# Altium footprint library SW_S101031MS02Q.PcbLib: 1 footprints
Each footprint in its own frame and in the unit in brackets; x right, y up, seen from the top. Pads: shape width x height; smd on the part's side, far side on the other; paste and mask are expansions set on the pad; w line width, h text height; cw(c..) or ccw(c..) is an arc to the next point about the centre after c.
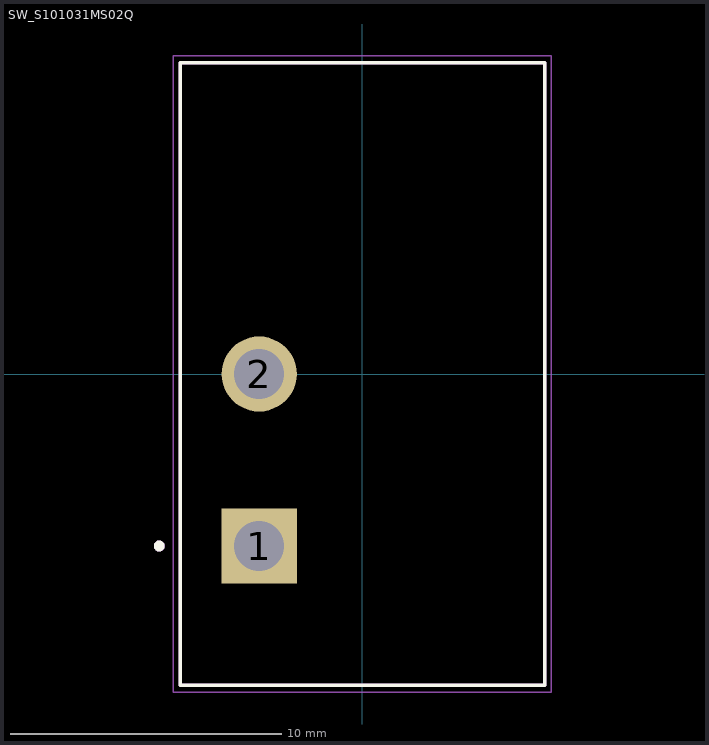
[diagram p0: the footprint, top view; thin cyan lines are the x and y axes]

## SW_S101031MS02Q [mm]
height 18.41
pads (2):
  rect 2.775x2.775 / inner round 2.775 / far side rect 2.775x2.775 hole 1.85: 1(-3.81,-6.35)
  round 2.775 hole 1.85: 2(-3.81,0)
Top Overlay:
  circle w0.2: c-7.5,-6.35 r0.1
  lines w0.127: -6.73,-11.495 6.73,-11.495 6.73,11.495 -6.73,11.495 -6.73,-11.495
Top Assembly:
  circle w0.2: c-7.493,-6.35 r0.1
  lines w0.127: -6.723,-11.495 6.737,-11.495 6.737,11.495 -6.723,11.495 -6.723,-11.495
  text ".Designator" at -6.477,12.827 h1.52
Mechanical 13:
  circle w0.2: c-7.5,-6.35 r0.1
  lines w0.127: -6.73,-11.495 6.73,-11.495 6.73,11.495 -6.73,11.495 -6.73,-11.495
Mechanical 15:
  lines w0.05: -6.98,-11.745 -6.98,11.745 6.98,11.745 6.98,-11.745 -6.98,-11.745
3D body "step_temp.STEP": height 18.41, standoff -3.56, extent -6.731,-11.493 6.731,11.493